# EAGLE library part PCM2704 (library ti-pcm2xxx)
98dB SNR Stereo USB2.0 FS DAC with line-out and S/PDIF output, Bus/Self-powered (Ext. ROM Interface) <http://focus.ti.com/docs/prod/folders/print/pcm2704.html>
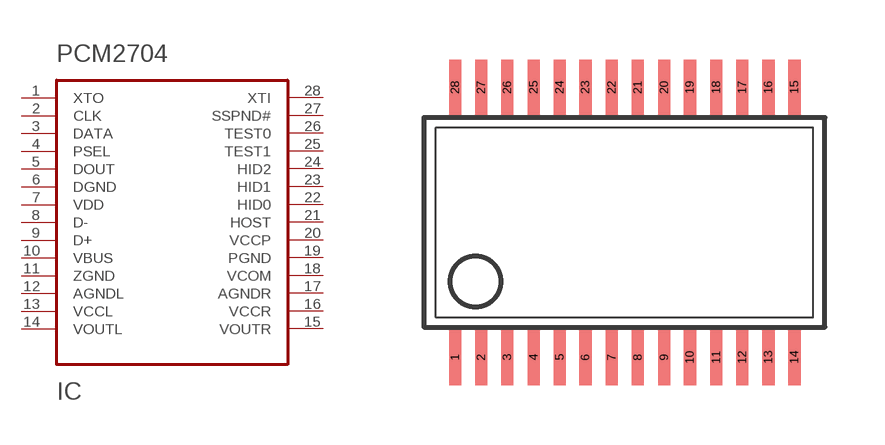
[diagram p1: symbol with the pads of SSOP28; footprint SSOP28]

Designator prefix IC

## PCM2704  [SSOP28]
1  XTO
2  CLK
3  DATA
4  PSEL
5  DOUT
6  DGND
7  VDD
8  D-
9  D+
10  VBUS
11  ZGND
12  AGNDL
13  VCCL
14  VOUTL
15  VOUTR
16  VCCR
17  AGNDR
18  VCOM
19  PGND
20  VCCP
21  HOST
22  HID0
23  HID1
24  HID2
25  TEST1
26  TEST0
27  SSPND#
28  XTI

## Footprint SSOP28 (pad centres in mm)
Shrink small-outline 28
smd 0.305 x 1.397: 1 -4.039,-2.856; 2 -3.384,-2.856; 3 -2.729,-2.856; 4 -2.064,-2.856; 5 -1.409,-2.856; 6 -0.764,-2.856; 7 -0.099,-2.856; 8 0.556,-2.856; 9 1.221,-2.856; 10 1.866,-2.856; 11 2.531,-2.856; 12 3.186,-2.856; 13 3.841,-2.856; 14 4.496,-2.856; 15 4.496,3.937; 16 3.841,3.937; 17 3.186,3.937; 18 2.531,3.937; 19 1.866,3.937; 20 1.221,3.937; 21 0.556,3.937; 22 -0.099,3.937; 23 -0.764,3.937; 24 -1.409,3.937; 25 -2.064,3.937; 26 -2.729,3.937; 27 -3.384,3.937; 28 -4.039,3.937